# EAGLE library part PMP4201V (library mmoretti)
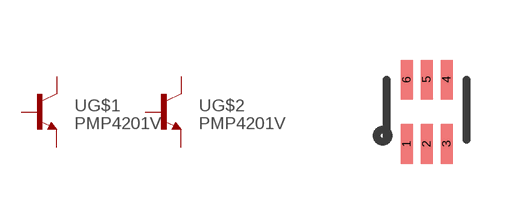
[diagram p31: symbol with the pads of SOT666; footprint SOT666]

Designator prefix -; gates G$1=NPN G$2=NPN

## PMP4201V  [SOT666]
1  G$1:B  pas
2  G$2:B  pas
3  G$2:C  pas
4  G$2:E  pas
5  G$1:E  pas
6  G$1:C  pas

## Footprint SOT666 (pad centres in mm)
smd 0.3 x 0.99: 1 0,0; 2 0.5,0; 3 1,0; 4 1,1.61; 5 0.5,1.61; 6 0,1.61